# Altium footprint library TC7WB66CFKLF.PcbLib: 3 footprints
Each footprint in its own frame and in the unit in brackets; x right, y up, seen from the top. Pads: shape width x height; smd on the part's side, far side on the other; paste and mask are expansions set on the pad; w line width, h text height; cw(c..) or ccw(c..) is an arc to the next point about the centre after c.
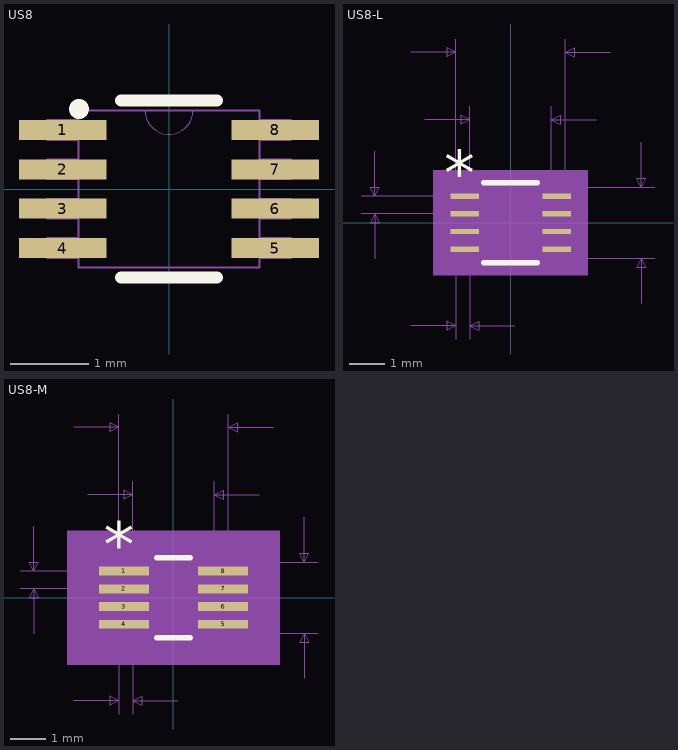
[diagram p0: the footprints below, top view; thin cyan lines are the x and y axes]

## US8 [mm]
pads (8):
  rect 1.111x0.254 smd paste+0 mask+0: 1(-1.35,0.75) 2(-1.35,0.25) 3(-1.35,-0.25) 4(-1.35,-0.75) 5(1.35,-0.75) 6(1.35,-0.25) 7(1.35,0.25) 8(1.35,0.75)
Top Overlay:
  circle w0.254: c-1.143,1.016 r0
  lines w0.152: -0.611,-1.127 0.611,-1.127 ; -0.611,1.127 0.611,1.127
Mechanical 13:
  lines w0: -0.305,1 ccw(c0,1) 0.305,1
  lines w0.025: -1.55,-0.875 -1.15,-0.875 -1.15,-0.625 -1.55,-0.625 -1.55,-0.875 ; -1.55,-0.375 -1.15,-0.375 -1.15,-0.125 -1.55,-0.125 -1.55,-0.375 ; -1.55,0.125 -1.15,0.125 -1.15,0.375 -1.55,0.375 -1.55,0.125 ; -1.55,0.625 -1.15,0.625 -1.15,0.875 -1.55,0.875 -1.55,0.625 ; -1.15,-1 -1.15,1 1.15,1 1.15,-1 -1.15,-1 ; 1.15,-0.875 1.55,-0.875 1.55,-0.625 1.15,-0.625 1.15,-0.875 ; 1.15,-0.375 1.55,-0.375 1.55,-0.125 1.15,-0.125 1.15,-0.375 ; 1.15,0.125 1.55,0.125 1.55,0.375 1.15,0.375 1.15,0.125 ; 1.15,0.625 1.55,0.625 1.55,0.875 1.15,0.875 1.15,0.625
3D body "TC7WB66CFKLF.stp": height 0.75, standoff 0, extent -1.55,-1 1.55,1

## US8-L [mm]
pads (8):
  rect 0.806x0.148 smd paste+0 mask+0: 1(-1.299,0.75) 2(-1.299,0.25) 3(-1.299,-0.25) 4(-1.299,-0.75) 5(1.299,-0.75) 6(1.299,-0.25) 7(1.299,0.25) 8(1.299,0.75)
Top Overlay:
  lines w0.152: -0.758,-1.127 0.758,-1.127 ; -0.758,1.127 0.758,1.127
  text "*" at -1.871,0.771 h1.27
Mechanical 5:
  region: 2.185,-1.483 -2.185,-1.483 -2.185,1.483 2.185,1.483
Mechanical 7:
  lines w0.025: -4.22,0.25 -1.299,0.25 ; -4.22,0.75 -1.299,0.75 ; -3.839,-1.02 -3.839,0.25 ; -3.839,2.02 -3.839,0.75 ; -2.82,-2.905 -1.55,-2.905 ; -2.82,4.81 -1.55,4.81 ; -2.42,2.905 -1.15,2.905 ; -1.55,-3.286 -1.55,0 -1.55,5.191 ; -1.15,-3.286 -1.15,0 -1.15,3.286 ; 0,-1 4.071,-1 ; 0,1 4.071,1 ; 0.12,-2.905 -1.15,-2.905 ; 1.15,0 1.15,3.286 ; 1.55,0 1.55,5.191 ; 2.42,2.905 1.15,2.905 ; 2.82,4.81 1.55,4.81 ; 3.69,-2.27 3.69,-1 ; 3.69,2.27 3.69,1 ; -3.839,0.25 -3.966,-0.004 -3.712,-0.004 -3.839,0.25 ; -3.839,0.75 -3.966,1.004 -3.712,1.004 -3.839,0.75 ; -1.55,-2.905 -1.804,-2.778 -1.804,-3.032 -1.55,-2.905 ; -1.55,4.81 -1.804,4.937 -1.804,4.683 -1.55,4.81 ; -1.15,-2.905 -0.896,-2.778 -0.896,-3.032 -1.15,-2.905 ; -1.15,2.905 -1.404,3.032 -1.404,2.778 -1.15,2.905 ; 1.15,2.905 1.404,3.032 1.404,2.778 1.15,2.905 ; 1.55,4.81 1.804,4.937 1.804,4.683 1.55,4.81 ; 3.69,-1 3.563,-1.254 3.817,-1.254 3.69,-1 ; 3.69,1 3.563,1.254 3.817,1.254 3.69,1
  text "Default Padstyle: RX31p75Y5p84D0T" at -10.477,-6.08 h1.27
  text "Pin One Padstyle: RX31p75Y5p84D0T" at -10.477,-7.604 h1.27
  text "Alt 1 Padstyle: OX60Y90D30P" at -8.572,-12.176 h1.27
  text "Alt 2 Padstyle: OX90Y60D30P" at -8.572,-13.7 h1.27
  text "0.091in/2.3mm" at -2.064,3.413 h0.64
  text "0.122in/3.1mm" at -2.064,5.318 h0.64
  text "0.079in/2mm" at 4.198,-0.318 h0.64
  text "0.02in/0.5mm" at -8.157,0.182 h0.64
  text "0.016in/0.4mm" at -3.414,-4.048 h0.64
Mechanical 13:
  lines w0: -0.305,1 ccw(c0,1) 0.305,1
  lines w0.025: -1.55,-0.875 -1.55,-0.625 -1.15,-0.625 -1.15,-0.875 -1.55,-0.875 ; -1.55,-0.375 -1.55,-0.125 -1.15,-0.125 -1.15,-0.375 -1.55,-0.375 ; -1.55,0.125 -1.55,0.375 -1.15,0.375 -1.15,0.125 -1.55,0.125 ; -1.55,0.625 -1.55,0.875 -1.15,0.875 -1.15,0.625 -1.55,0.625 ; -1.15,-1 1.15,-1 1.15,1 -1.15,1 -1.15,-1 ; 1.15,-0.875 1.15,-0.625 1.55,-0.625 1.55,-0.875 1.15,-0.875 ; 1.15,-0.375 1.15,-0.125 1.55,-0.125 1.55,-0.375 1.15,-0.375 ; 1.15,0.125 1.15,0.375 1.55,0.375 1.55,0.125 1.15,0.125 ; 1.15,0.625 1.15,0.875 1.55,0.875 1.55,0.625 1.15,0.625
  text "*" at -1.087,-0.346 h1.27
Mechanical 15:
  region: -1.252,-0.926 -1.804,-0.926 -1.804,0.926 -1.252,0.926 -1.252,1.102 1.252,1.102 1.252,0.926 1.804,0.926 1.804,-0.926 1.252,-0.926 1.252,-1.102 -1.252,-1.102
  lines w0.152: -1.804,-0.926 -1.804,0.926 -1.252,0.926 -1.252,1.102 1.252,1.102 1.252,0.926 1.804,0.926 1.804,-0.926 1.252,-0.926 1.252,-1.102 -1.252,-1.102 -1.252,-0.926 -1.804,-0.926
3D body: height 0.25, standoff 0, extent 0,0 0.254,0.254

## US8-M [mm]
pads (8):
  rect 1.416x0.25 smd paste+0 mask+0: 1(-1.401,0.75) 2(-1.401,0.25) 3(-1.401,-0.25) 4(-1.401,-0.75) 5(1.401,-0.75) 6(1.401,-0.25) 7(1.401,0.25) 8(1.401,0.75)
Top Overlay:
  lines w0.152: -0.476,-1.127 0.476,-1.127 ; -0.476,1.127 0.476,1.127
  text "*" at -1.972,0.873 h1.27
Mechanical 5:
  region: 2.998,-1.889 -2.998,-1.889 -2.998,1.889 2.998,1.889
Mechanical 7:
  lines w0.025: -4.322,0.25 -1.401,0.25 ; -4.322,0.75 -1.401,0.75 ; -3.941,-1.02 -3.941,0.25 ; -3.941,2.02 -3.941,0.75 ; -2.82,-2.905 -1.55,-2.905 ; -2.82,4.81 -1.55,4.81 ; -2.42,2.905 -1.15,2.905 ; -1.55,-3.286 -1.55,0 -1.55,5.191 ; -1.15,-3.286 -1.15,0 -1.15,3.286 ; 0,-1 4.071,-1 ; 0,1 4.071,1 ; 0.12,-2.905 -1.15,-2.905 ; 1.15,0 1.15,3.286 ; 1.55,0 1.55,5.191 ; 2.42,2.905 1.15,2.905 ; 2.82,4.81 1.55,4.81 ; 3.69,-2.27 3.69,-1 ; 3.69,2.27 3.69,1 ; -3.941,0.25 -4.068,-0.004 -3.814,-0.004 -3.941,0.25 ; -3.941,0.75 -4.068,1.004 -3.814,1.004 -3.941,0.75 ; -1.55,-2.905 -1.804,-2.778 -1.804,-3.032 -1.55,-2.905 ; -1.55,4.81 -1.804,4.937 -1.804,4.683 -1.55,4.81 ; -1.15,-2.905 -0.896,-2.778 -0.896,-3.032 -1.15,-2.905 ; -1.15,2.905 -1.404,3.032 -1.404,2.778 -1.15,2.905 ; 1.15,2.905 1.404,3.032 1.404,2.778 1.15,2.905 ; 1.55,4.81 1.804,4.937 1.804,4.683 1.55,4.81 ; 3.69,-1 3.563,-1.254 3.817,-1.254 3.69,-1 ; 3.69,1 3.563,1.254 3.817,1.254 3.69,1
  text "Default Padstyle: RX55p75Y9p84D0T" at -10.477,-6.08 h1.27
  text "Pin One Padstyle: RX55p75Y9p84D0T" at -10.477,-7.604 h1.27
  text "Alt 1 Padstyle: OX60Y90D30P" at -8.572,-12.176 h1.27
  text "Alt 2 Padstyle: OX90Y60D30P" at -8.572,-13.7 h1.27
  text "0.091in/2.3mm" at -2.064,3.413 h0.64
  text "0.122in/3.1mm" at -2.064,5.318 h0.64
  text "0.079in/2mm" at 4.198,-0.318 h0.64
  text "0.02in/0.5mm" at -8.259,0.182 h0.64
  text "0.016in/0.4mm" at -3.414,-4.048 h0.64
Mechanical 13:
  lines w0: -0.305,1 ccw(c0,1) 0.305,1
  lines w0.025: -1.55,-0.875 -1.55,-0.625 -1.15,-0.625 -1.15,-0.875 -1.55,-0.875 ; -1.55,-0.375 -1.55,-0.125 -1.15,-0.125 -1.15,-0.375 -1.55,-0.375 ; -1.55,0.125 -1.55,0.375 -1.15,0.375 -1.15,0.125 -1.55,0.125 ; -1.55,0.625 -1.55,0.875 -1.15,0.875 -1.15,0.625 -1.55,0.625 ; -1.15,-1 1.15,-1 1.15,1 -1.15,1 -1.15,-1 ; 1.15,-0.875 1.15,-0.625 1.55,-0.625 1.55,-0.875 1.15,-0.875 ; 1.15,-0.375 1.15,-0.125 1.55,-0.125 1.55,-0.375 1.15,-0.375 ; 1.15,0.125 1.15,0.375 1.55,0.375 1.55,0.125 1.15,0.125 ; 1.15,0.625 1.15,0.875 1.55,0.875 1.55,0.625 1.15,0.625
  text "*" at -1.087,-0.346 h1.27
Mechanical 15:
  region: -1.658,-1.383 -2.617,-1.383 -2.617,1.383 -1.658,1.383 -1.658,1.508 1.658,1.508 1.658,1.383 2.617,1.383 2.617,-1.383 1.658,-1.383 1.658,-1.508 -1.658,-1.508
  lines w0.152: -2.617,-1.383 -2.617,1.383 -1.658,1.383 -1.658,1.508 1.658,1.508 1.658,1.383 2.617,1.383 2.617,-1.383 1.658,-1.383 1.658,-1.508 -1.658,-1.508 -1.658,-1.383 -2.617,-1.383
3D body: height 0.25, standoff 0, extent 0,0 0.254,0.254